# Altium footprint library SparkFun-Connectors.PCBLIB: 305 footprints (part 2 of 20)
Each footprint in its own frame and in the unit in brackets; x right, y up, seen from the top. Pads: shape width x height; smd on the part's side, far side on the other; paste and mask are expansions set on the pad; w line width, h text height; cw(c..) or ccw(c..) is an arc to the next point about the centre after c.
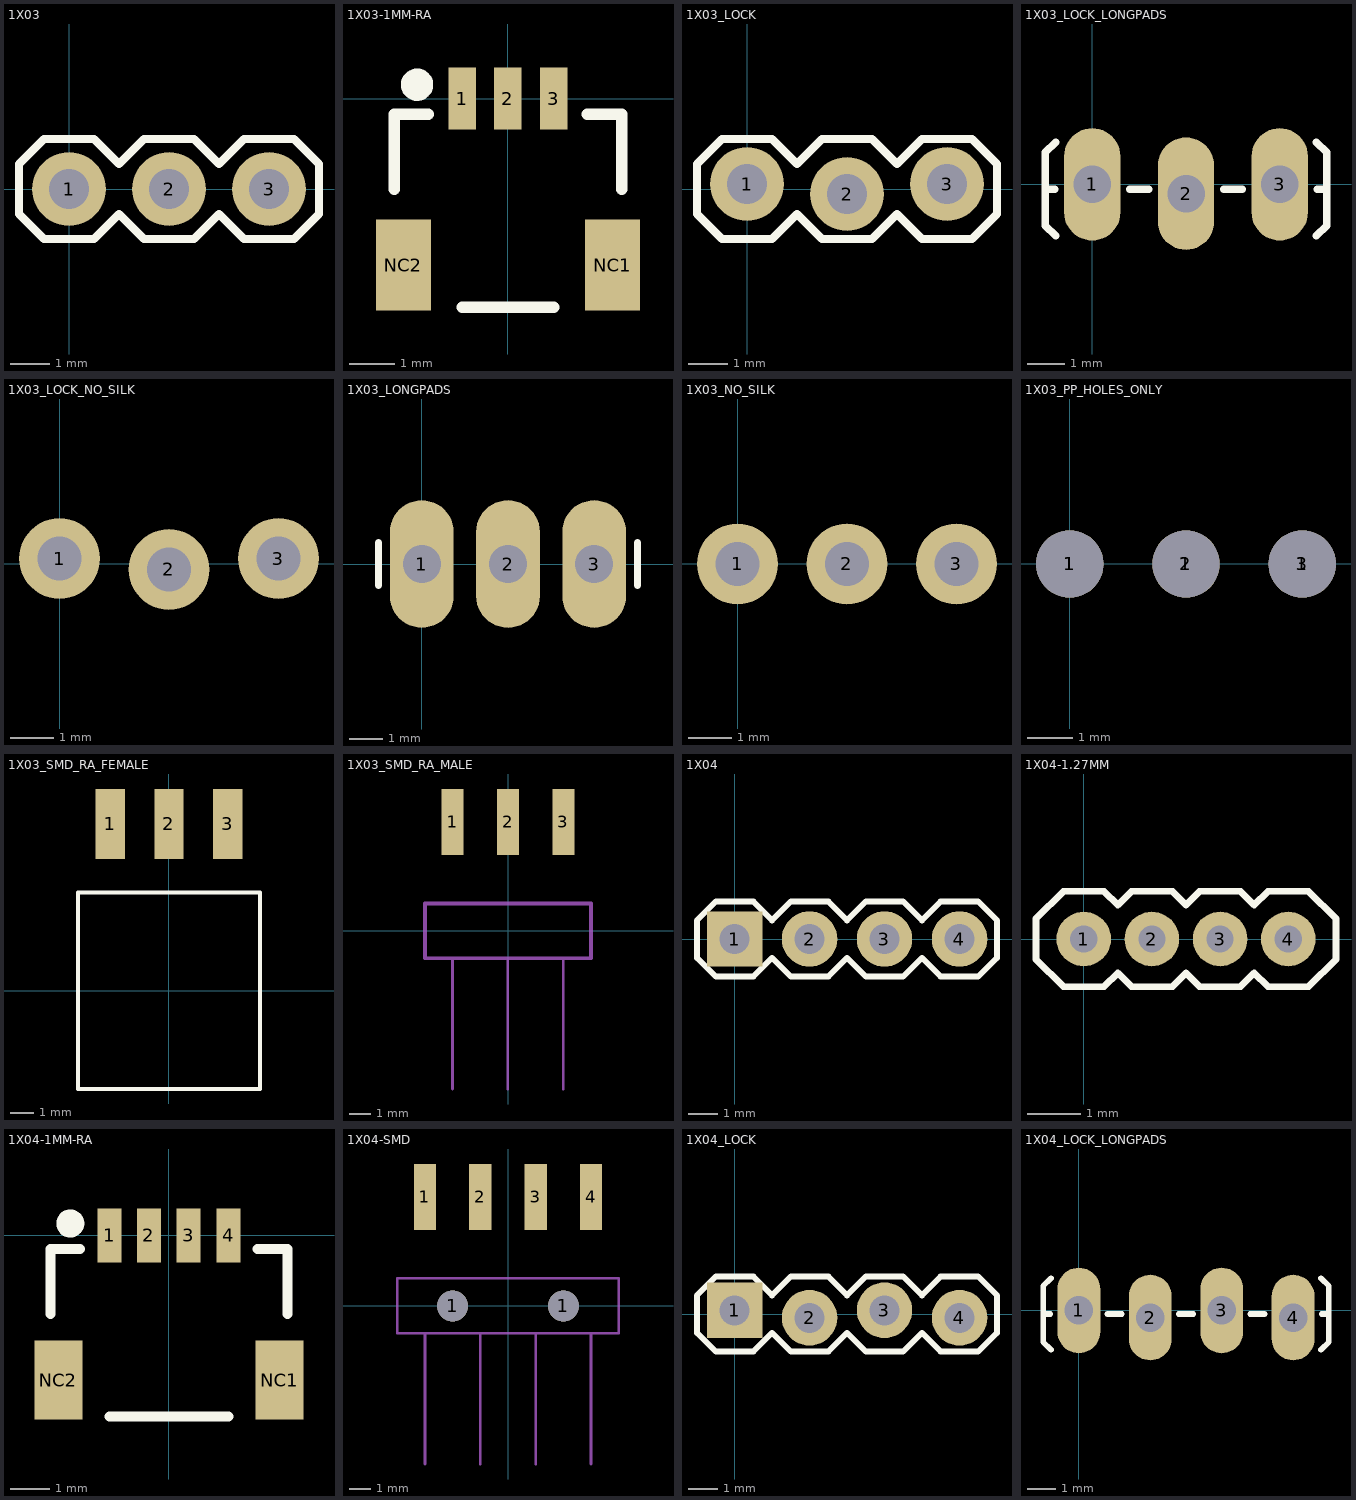
[diagram p1: the footprints below, top view; thin cyan lines are the x and y axes]

## 1X03 [mil]
pads (3):
  round 74 hole 40: 1(0,0) 2(100,0) 3(200,0)
Top Overlay:
  lines w8: -50,-25 -50,25 -25,50 25,50 50,25 75,50 125,50 150,25 175,50 225,50 250,25 250,-25 225,-50 175,-50 150,-25 125,-50 75,-50 50,-25 25,-50 -25,-50 -50,-25
Mechanical 16:
  rectangle: 190,-10 210,10
  rectangle: 90,-10 110,10
  rectangle: -10,-10 10,10

## 1X03-1MM-RA [mil]
pads (5):
  rect 24x54 smd: 1(-39.37,0) 2(0,0) 3(40,0)
  rect 48x79 smd: NC1(91,-144.69) NC2(-90.55,-144.69)
Top Overlay:
  circle w16: c-78.74,12 r6
  lines w10: -98.43,-78.74 -98.43,-13.78 -68.9,-13.78 ; -39.37,-181.1 40,-181.1 ; 69,-13.78 99,-13.78 99,-78.74

## 1X03_LOCK [mil]
pads (3):
  round 74 hole 40: 1(0,5) 2(100,-5) 3(200,5)
Top Overlay:
  lines w8: -50,-25 -50,25 -25,50 25,50 50,25 75,50 125,50 150,25 175,50 225,50 250,25 250,-25 225,-50 175,-50 150,-25 125,-50 75,-50 50,-25 25,-50 -25,-50 -50,-25
Mechanical 16:
  rectangle: 190,-10 210,10
  rectangle: 90,-10 110,10
  rectangle: -10,-10 10,10

## 1X03_LOCK_LONGPADS [mil]
pads (3):
  oval 60x120 hole 40: 1(0,0) 2(100,-10) 3(200,0)
Top Overlay:
  lines w8: -40,-5 -50,-5 ; -39,-55 -50,-44 -50,-5 ; -39,45 -50,34 -50,-5 ; 40,-5 60,-5 ; 140,-5 160,-5 ; 239,-55 250,-44 250,-5 ; 239,45 250,34 250,-5 ; 240,-5 250,-5
Mechanical 16:
  rectangle: -11.5,-16.5 12,7
  rectangle: 89,-16.5 112,7
  rectangle: 189,-16.5 212,7

## 1X03_LOCK_NO_SILK [mil]
pads (3):
  round 74 hole 40: 1(0,5) 2(100,-5) 3(200,5)
Mechanical 16:
  rectangle: 190,-10 210,10
  rectangle: 90,-10 110,10
  rectangle: -10,-10 10,10

## 1X03_LONGPADS [mil]
pads (3):
  oval 74x148 hole 44: 1(0,0) 2(100,0) 3(200,0)
Top Overlay:
  lines w8: -50,-25 -50,25 ; 250,-25 250,25
Mechanical 16:
  rectangle: 190,-10 210,10
  rectangle: 90,-10 110,10
  rectangle: -10,-10 10,10

## 1X03_NO_SILK [mil]
pads (3):
  round 74 hole 40: 1(0,0) 2(100,0) 3(200,0)
Mechanical 16:
  rectangle: 190,-10 210,10
  rectangle: 90,-10 110,10
  rectangle: -10,-10 10,10

## 1X03_PP_HOLES_ONLY [mil]
pads (6):
  round 32 hole 36: 1(0,0) 2(100,0) 3(200,0)
  round 58 hole 58: 1(0,0) 1(100,0) 1(200,0)
Mechanical 16:
  circle w5: c0,0 r25
  circle w5: c100,0 r25
  circle w5: c200,0 r25

## 1X03_SMD_RA_FEMALE [mil]
pads (3):
  rect 50x119 smd: 1(-100,285) 2(0,285) 3(100,285)
Top Overlay:
  lines w7: -154.92,-167.32 -154.92,168 155,168 155,-167.32 -154.92,-167.32
Mechanical 16:
  rectangle: -12.6,268 13,302
  rectangle: 88,268 113,302
  rectangle: -112.6,268 -87.4,302

## 1X03_SMD_RA_MALE [mil]
pads (3):
  rect 40x119 smd: 1(-100,197) 2(0,197) 3(100,197)
Mechanical 16:
  rectangle: -12.6,164 13,235
  rectangle: -112.6,164 -87.4,235
  rectangle: 88,164 113,235
  lines w5: -100.39,-285.43 -100.39,-49.21 ; -0.39,-285.43 -0.39,-49.21 ; 100,-285.43 100,-49.21
  lines w7: -150,-49.21 -150,50 150,50 150,-49.21 100,-49.21 -0.39,-49.21 -100.39,-49.21 -150,-49.21

## 1X04 [mil]
pads (4):
  rect 74x74 hole 40: 1(0,0)
  round 74 hole 40: 2(100,0) 3(200,0) 4(300,0)
Top Overlay:
  lines w8: -50,-25 -50,25 -25,50 25,50 50,25 75,50 125,50 150,25 175,50 225,50 250,25 275,50 325,50 350,25 350,-25 325,-50 275,-50 250,-25 225,-50 175,-50 150,-25 125,-50 75,-50 50,-25 25,-50 -25,-50 -50,-25
Mechanical 16:
  rectangle: 290,-10 310,10
  rectangle: 190,-10 210,10
  rectangle: 90,-10 110,10
  rectangle: -10,-10 10,10

## 1X04-1.27MM [mil]
pads (4):
  round 40 hole 20: 1(0,0) 2(50,0) 3(100,0) 4(150,0)
Top Overlay:
  lines w5: -35,-15 -15,-35 15,-35 25,-25 35,-35 65,-35 75,-25 85,-35 115,-35 125,-25 135,-35 165,-35 185,-15 185,15 165,35 135,35 125,25 115,35 85,35 75,25 65,35 35,35 25,25 15,35 -15,35 -35,15 -35,-15

## 1X04-1MM-RA [mil]
pads (6):
  rect 24x54 smd: 1(-59.06,0) 2(-19.68,0) 3(20,0) 4(60,0)
  rect 48x79 smd: NC1(111,-144.69) NC2(-110.24,-144.69)
Top Overlay:
  circle w16: c-98.43,12 r6
  lines w10: -118.11,-78.74 -118.11,-13.78 -88.58,-13.78 ; -59.06,-181.1 60,-181.1 ; 89,-13.78 119,-13.78 119,-78.74

## 1X04-SMD [mil]
pads (6):
  rect 40x119 smd: 1(-150,197) 2(-50,197) 3(50,197) 4(150,197)
  round 56 hole 56: 1(-100,0) 1(100,0)
Mechanical 16:
  lines w5: -150,-285.43 -150,-49.21 ; -50,-285.43 -50,-49.21 ; 50,-285.43 50,-49.21 ; 150,-285.43 150,-49.21 ; -150,-49.21 -200,-49.21 -200,50 200,50 200,-49.21 150,-49.21 ; -150,-49.21 -50,-49.21 ; -50,-49.21 50,-49.21 ; 50,-49.21 150,-49.21

## 1X04_LOCK [mil]
pads (4):
  rect 74x74 hole 40: 1(0,5)
  round 74 hole 40: 2(100,-5) 3(200,5) 4(300,-5)
Top Overlay:
  lines w8: -50,-25 -50,25 -25,50 25,50 50,25 75,50 125,50 150,25 175,50 225,50 250,25 275,50 325,50 350,25 350,-25 325,-50 275,-50 250,-25 225,-50 175,-50 150,-25 125,-50 75,-50 50,-25 25,-50 -25,-50 -50,-25
Mechanical 16:
  rectangle: 290,-10 310,10
  rectangle: 190,-10 210,10
  rectangle: 90,-10 110,10
  rectangle: -10,-10 10,10

## 1X04_LOCK_LONGPADS [mil]
pads (4):
  oval 60x120 hole 40: 1(0,0) 2(100,-10) 3(200,0) 4(300,-10)
Top Overlay:
  lines w8: -40,-5 -50,-5 ; -39,-55 -50,-44 -50,-5 ; -39,45 -50,34 -50,-5 ; 40,-5 60,-5 ; 140,-5 160,-5 ; 240,-5 260,-5 ; 339,-55 350,-44 350,-5 ; 339,45 350,34 350,-5 ; 340,-5 350,-5
Mechanical 16:
  rectangle: -11.5,-16.5 12,7
  rectangle: 89,-16.5 112,7
  rectangle: 189,-16.5 212,7
  region: 312.25,-16.25 312.25,6.75 288.75,6.75 288.75,-16.25